# Altium schematic symbol library MECH_1PIN.SchLib: 1 symbol
Pins are listed as number, name and electrical type; pins without a type are passive.

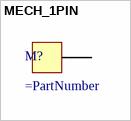
[diagram p0: symbol MECH_1PIN]

## MECH_1PIN
designator M?
pins: 1